# Altium schematic symbol library 7675-9v034-746.SCHLIB: 4 symbols
Pins are listed as number, name and electrical type; pins without a type are passive.

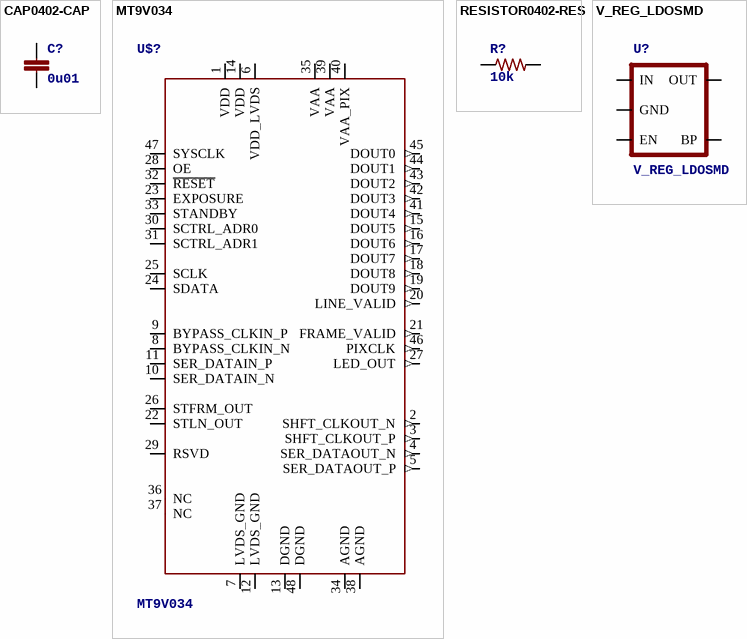
[diagram p0: symbols CAP0402-CAP to V_REG_LDOSMD]

## CAP0402-CAP
designator C?, comment 0u01
<b>Capacitor</b> / Standard 0603 ceramic capacitor, and 0.1" leaded capacitor.; PARTNO: CC0402KRX7R7BB103
footprint 0402-CAP
footprint 0603-CAP
pins: 1, 2

## MT9V034
designator U$?
PARTNO: MT9V034C12STM
footprint CLCC-48
pins: 1 VDD, 2 SHFT_CLKOUT_N (out), 3 SHFT_CLKOUT_P (out), 4 SER_DATAOUT_N (out), 5 SER_DATAOUT_P (out), 6 VDD_LVDS, 7 LVDS_GND (power), 8 BYPASS_CLKIN_N, 9 BYPASS_CLKIN_P, 10 SER_DATAIN_N, 11 SER_DATAIN_P, 12 LVDS_GND (power), 13 DGND (power), 14 VDD, 15 DOUT5 (out), 16 DOUT6 (out), 17 DOUT7 (out), 18 DOUT8 (out), 19 DOUT9 (out), 20 LINE_VALID (out), 21 FRAME_VALID (out), 22 STLN_OUT, 23 EXPOSURE, 24 SDATA, 25 SCLK, 26 STFRM_OUT, 27 LED_OUT (out), 28 OE, 29 RSVD, 30 SCTRL_ADR0, 31 SCTRL_ADR1, 32 ~{RESET}, 33 STANDBY, 34 AGND (power), 35 VAA, 36 NC, 37 NC, 38 AGND (power), 39 VAA, 40 VAA_PIX, 41 DOUT4 (out), 42 DOUT3 (out), 43 DOUT2 (out), 44 DOUT1 (out), 45 DOUT0 (out), 46 PIXCLK (out), 47 SYSCLK, 48 DGND (power)

## RESISTOR0402-RES
designator R?, comment 10k
<b>Resistor</b> / Basic schematic elements and footprints for 0603, 1206, and PTH 1/10th watt (small) resistors.; PARTNO: MCR01MZPJ271
footprint 0402-RES
footprint 0603-RES
pins: 1, 2

## V_REG_LDOSMD
designator U?
<b>Voltage Regulator LDO</b> / Standard 150mA LDO voltage regulator in SOT-23 layout. Micrel part MIC5205. BP (by-pass) pin is used to lower output noise with 470pF cap.; PARTNO: MIC5207-3.3YM5
footprint SOT23-5
pins: 1 IN, 2 GND, 3 EN, 4 BP, 5 OUT